# Altium footprint library HV9006_MEASUREBOARD.PCBLIB: 292 footprints (part 18 of 19)
Each footprint in its own frame and in the unit in brackets; x right, y up, seen from the top. Pads: shape width x height; smd on the part's side, far side on the other; paste and mask are expansions set on the pad; w line width, h text height; cw(c..) or ccw(c..) is an arc to the next point about the centre after c.
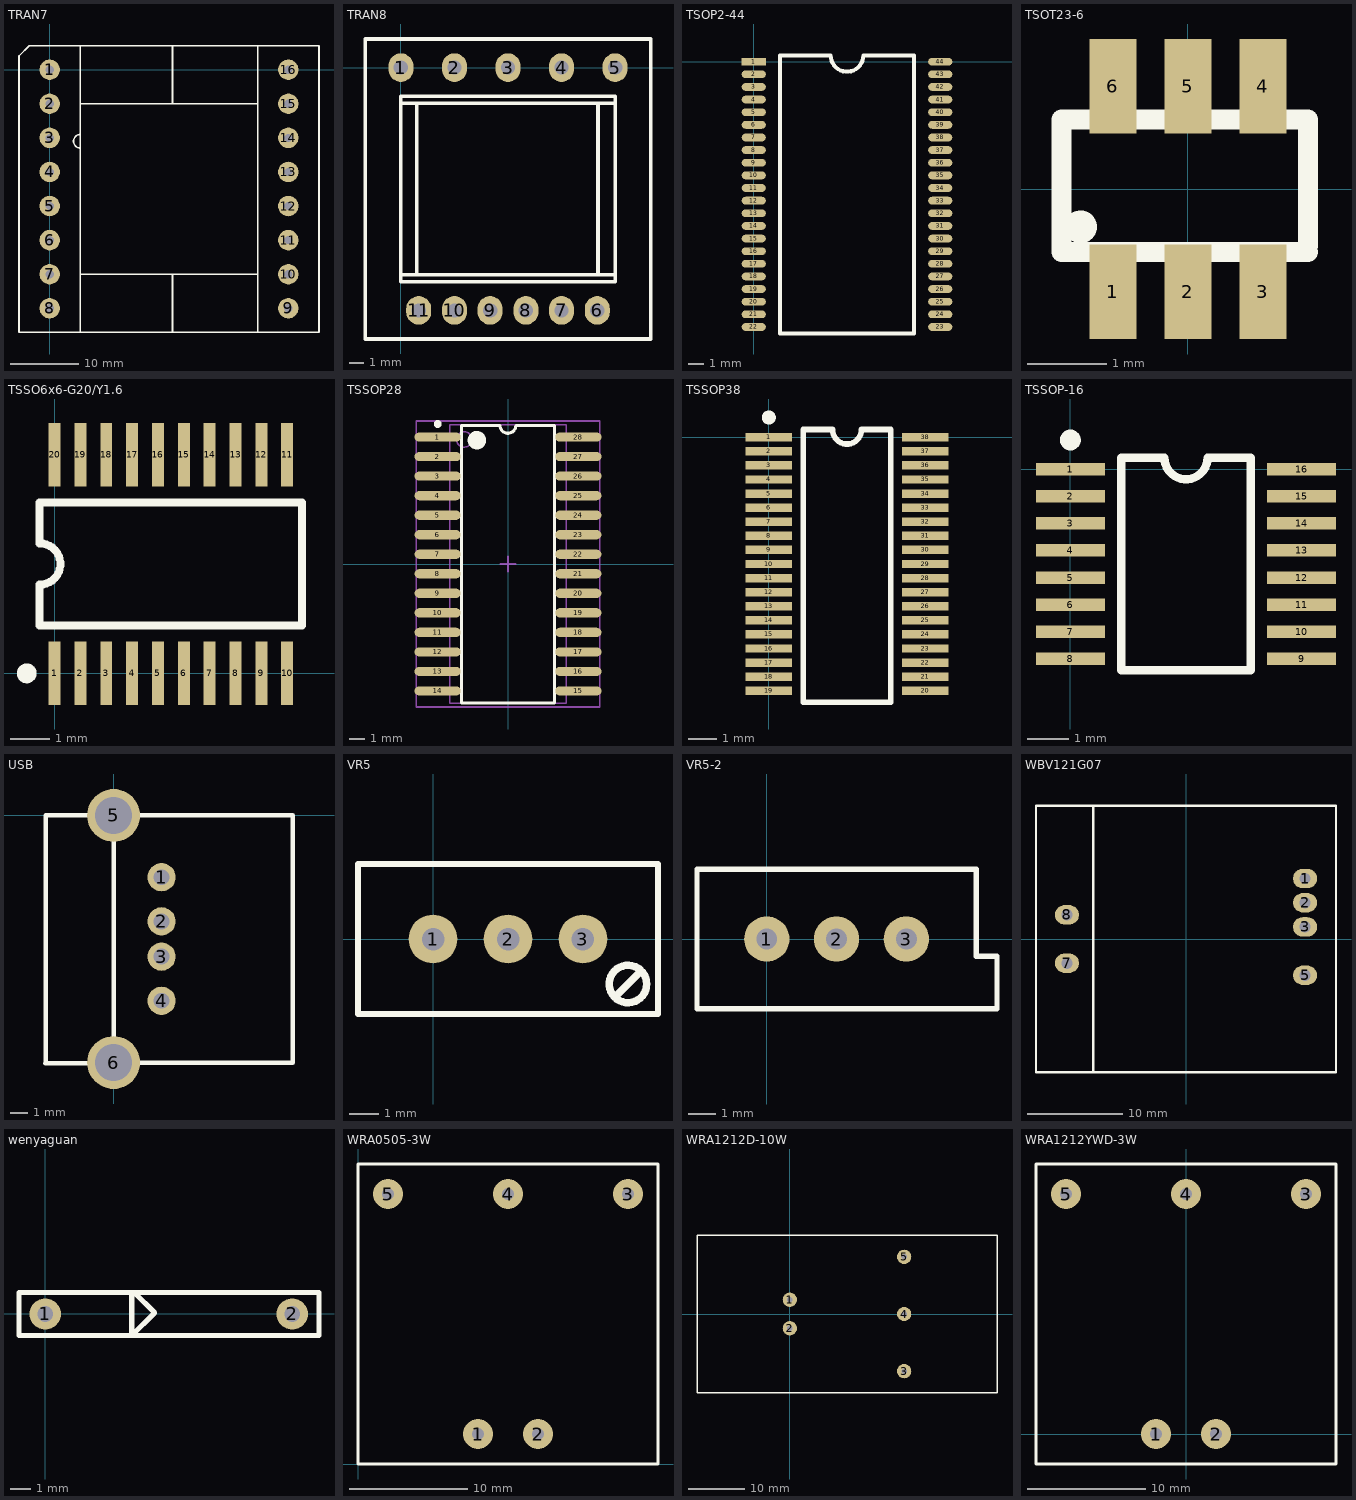
[diagram p17: the footprints below, top view; thin cyan lines are the x and y axes]

## TRAN7 [mm]
pads (16):
  round 3 hole 1.2: 1(0,0) 2(0,-5) 3(0,-10) 4(0,-15) 5(0,-20) 6(0,-25) 7(0,-30) 8(0,-35) 9(35,-35) 10(35,-30) 11(35,-25) 12(35,-20) 13(35,-15) 14(35,-10) 15(35,-5) 16(35,0)
Top Overlay:
  lines w0.254: 4.5,-38.5 4.5,3.5 ; 4.5,-30 30.5,-30 ; 4.5,-11.5 cw(c4.5,-10.5) 4.5,-9.5 ; 4.5,-5 30.5,-5 ; 18,-38.5 18,-30 ; 18,-5 18,3.5 ; 30.5,-38.5 30.5,3.5 ; -4.5,-38.5 -4.5,2 -3,3.5 39.5,3.5 39.5,-38.5 -4.5,-38.5

## TRAN8 [mm]
pads (11):
  oval 1.75x2 hole 1: 1(0,0) 2(3.75,0) 3(7.5,0) 4(11.25,0) 5(15,0) 6(13.75,-17) 7(11.25,-17) 8(8.75,-17) 9(6.25,-17) 10(3.75,-17) 11(1.25,-17)
Top Overlay:
  lines w0.254: 0,-14.5 15,-14.5 ; 0,-2.5 15,-2.5 ; 1.1,-14.5 1.1,-2.5 ; 13.8,-14.5 13.8,-2.5 ; -2.5,-19 17.5,-19 17.5,2 -2.5,2 -2.5,-19 ; 0,-15 15,-15 15,-2 0,-2 0,-15

## TSOP2-44 [mil]
pads (44):
  rect 60x19.5 smd: 1(0,0)
  oval 60x19.5 smd: 2(0,-31.5) 3(0,-62.99) 4(0,-94.49) 5(0,-125.98) 6(0,-157.48) 7(0,-188.98) 8(0,-220.47) 9(0,-251.97) 10(0,-283.46) 11(0,-314.96) 12(0,-346.46) 13(0,-377.95) 14(0,-409.45) 15(0,-440.94) 16(0,-472.44) 17(0,-503.94) 18(0,-535.43) 19(0,-566.93) 20(0,-598.42) 21(0,-629.92) 22(0,-661.42) 23(465,-661.42) 24(465,-629.92) 25(465,-598.42) 26(465,-566.93) 27(465,-535.43) 28(465,-503.94) 29(465,-472.44) 30(465,-440.94) 31(465,-409.45) 32(465,-377.95) 33(465,-346.46) 34(465,-314.96) 35(465,-283.46) 36(465,-251.97) 37(465,-220.47) 38(465,-188.98) 39(465,-157.48) 40(465,-125.98) 41(465,-94.49) 42(465,-62.99) 43(465,-31.5) 44(465,0)
Top Overlay:
  lines w10: 191,15.75 65,15.75 65,-677.16 400,-677.16 400,15.75 275,15.75 ; 191.68,15.75 ccw(c232.5,15.75) 273.32,15.75

## TSOT23-6 [mm]
pads (6):
  rect 0.6x1.2 smd: 1(-0.95,-1.3) 2(0,-1.3) 3(0.95,-1.3) 4(0.95,1.3) 5(0,1.3) 6(-0.95,1.3)
Top Overlay:
  circle w0.254: c-1.36,-0.48 r0.08
  lines w0.254: 1.52,-0.8 -1.6,-0.8 -1.6,0.88 1.52,0.88 1.52,-0.72

## TSSO6x6-G20/Y1.6 [mm]
pads (20):
  rect 0.3x1.6 smd: 1(0,0) 2(0.65,0) 3(1.3,0) 4(1.95,0) 5(2.6,0) 6(3.25,0) 7(3.9,0) 8(4.55,0) 9(5.2,0) 10(5.85,0) 11(5.85,5.5) 12(5.2,5.5) 13(4.55,5.5) 14(3.9,5.5) 15(3.25,5.5) 16(2.6,5.5) 17(1.95,5.5) 18(1.3,5.5) 19(0.65,5.5) 20(0,5.5)
Top Overlay:
  circle w0.25: c-0.7,0 r0.125
  lines w0.2: -0.375,1.2 6.225,1.2 6.225,4.3 -0.375,4.3 -0.375,3.27 cw(c-0.375,2.75) -0.375,2.23 -0.375,1.2

## TSSOP28 [mm]
height 2.65
pads (28):
  oval 3x0.6 smd: 1(-4.575,8.255) 2(-4.575,6.985) 3(-4.575,5.715) 4(-4.575,4.445) 5(-4.575,3.175) 6(-4.575,1.905) 7(-4.575,0.635) 8(-4.575,-0.635) 9(-4.575,-1.905) 10(-4.575,-3.175) 11(-4.575,-4.445) 12(-4.575,-5.715) 13(-4.575,-6.985) 14(-4.575,-8.255) 15(4.575,-8.255) 16(4.575,-6.985) 17(4.575,-5.715) 18(4.575,-4.445) 19(4.575,-3.175) 20(4.575,-1.905) 21(4.575,-0.635) 22(4.575,0.635) 23(4.575,1.905) 24(4.575,3.175) 25(4.575,4.445) 26(4.575,5.715) 27(4.575,6.985) 28(4.575,8.255)
Top Overlay:
  circle w0.25: c-4.575,9.105 r0.125
  circle w0.6: c-2.025,8.05 r0.3
  lines w0.2: -0.559,9.017 -3.025,9.017 -3.025,-9.05 3.025,-9.05 3.025,9.017 0.508,9.017 cw(c-0.009,9.017) -0.525,9.017
Mechanical 13:
  circle w0.1: c-2.85,8.1 r0.5
  lines w0.1: -3.8,-9.05 -3.8,9.05 3.8,9.05 3.8,-9.05 -3.8,-9.05
Mechanical 15:
  lines w0.1: -0.5,0 0.5,0 ; 0,-0.5 0,0.5 ; -5.975,-9.3 -5.975,9.3 5.975,9.3 5.975,-9.3 -5.975,-9.3
3D body: height 2.65, standoff 0.1, extent -3.8,-9.05 3.8,9.05

## TSSOP38 [mm]
pads (38):
  rect 1.65x0.3 smd: 1(0,0) 2(0,-0.5) 3(0,-1) 4(0,-1.5) 5(0,-2) 6(0,-2.5) 7(0,-3) 8(0,-3.5) 9(0,-4) 10(0,-4.5) 11(0,-5) 12(0,-5.5) 13(0,-6) 14(0,-6.5) 15(0,-7) 16(0,-7.5) 17(0,-8) 18(0,-8.5) 19(0,-9) 20(5.55,-9) 21(5.55,-8.5) 22(5.55,-8) 23(5.55,-7.5) 24(5.55,-7) 25(5.55,-6.5) 26(5.55,-6) 27(5.55,-5.5) 28(5.55,-5) 29(5.55,-4.5) 30(5.55,-4) 31(5.55,-3.5) 32(5.55,-3) 33(5.55,-2.5) 34(5.55,-2) 35(5.55,-1.5) 36(5.55,-1) 37(5.55,-0.5) 38(5.55,0)
Top Overlay:
  circle w0.25: c0,0.7 r0.125
  lines w0.2: 1.219,-9.398 1.225,0.275 2.258,0.275 ccw(c2.775,0.275) 3.292,0.275 4.325,0.275 4.325,-9.41 1.225,-9.41

## TSSOP-16 [mm]
pads (16):
  rect 1.65x0.3 smd: 1(0,0) 2(0,-0.65) 3(0,-1.3) 4(0,-1.95) 5(0,-2.6) 6(0,-3.25) 7(0,-3.9) 8(0,-4.55) 9(5.55,-4.55) 10(5.55,-3.9) 11(5.55,-3.25) 12(5.55,-2.6) 13(5.55,-1.95) 14(5.55,-1.3) 15(5.55,-0.65) 16(5.55,0)
Top Overlay:
  circle w0.25: c0,0.7 r0.125
  lines w0.2: 1.225,-4.825 4.325,-4.825 4.325,0.275 3.292,0.275 cw(c2.775,0.275) 2.258,0.275 1.225,0.275 1.225,-4.825

## USB [mm]
pads (6):
  round 1.6 hole 0.9: 1(2.715,-3.5) 2(2.715,-6) 3(2.715,-8) 4(2.715,-10.5)
  round 3 hole 2.1: 5(0,0) 6(0,-14)
Top Overlay:
  lines w0.254: -3.875,-14.046 -0.025,-14.046 ; -3.85,-14.021 -3.85,0 0,0 ; 0,0 10.15,0 10.15,-14 0,-14 0,0

## VR5 [mil]
pads (3):
  round 65 hole 30: 1(0,0) 2(100,0) 3(200,0)
Top Overlay:
  circle w10: c260,-60 r25
  lines w7.87: -100,-100 -100,100 300,100 300,0 300,-100 -100,-100
  lines w10: 245,-75 275,-45 275,-40

## VR5-2 [mil]
pads (3):
  round 65 hole 30: 1(0,0) 2(100,0) 3(200,0)
Top Overlay:
  lines w7.85: 300,-100 330,-100 330,-25 300,-25
  lines w7.87: 300,-100 -100,-100 -100,100 300,100 300,-25

## WBV121G07 [mil]
pads (6):
  oval 100x80 hole 47: 1(492.13,250) 2(492.13,150) 3(492.13,50) 5(492.13,-150) 7(-492.13,-100) 8(-492.13,100)
Top Overlay:
  lines w10: -383.86,-551.18 -383.86,551.18 ; -620.08,-551.18 -620.08,551.18 620.08,551.18 620.08,-551.18 -620.08,-551.18

## wenyaguan [mil]
pads (2):
  round 60 hole 30: 1(0,0) 2(472.44,0)
Top Overlay:
  lines w10: -50.2,41.34 -50.2,-41.34 523.62,-41.34 523.62,41.34 -49.21,41.34 ; 165.35,41.34 165.35,-41.34 208.66,1.97 208.66,2.95 170.28,41.34

## WRA0505-3W [mil]
pads (5):
  round 100 hole 40: 1(400,100) 2(600,100) 3(900,900) 4(500,900) 5(100,900)
Top Overlay:
  lines w10: 0,0 0,1000 1000,1000 1000,0 0,0

## WRA1212D-10W [mil]
pads (5):
  round 100 hole 39: 1(0,100) 2(0,-100) 3(800,-400) 4(800,0) 5(800,400)
Top Overlay:
  lines w10: -650,-550 1450,-550 1450,550 -650,550 -650,-550

## WRA1212YWD-3W [mil]
pads (5):
  round 100 hole 39: 1(-100,0) 2(100,0) 3(400,800) 4(0,800) 5(-400,800)
Top Overlay:
  lines w10: -500,-100 500,-100 500,900 -500,900 -500,-100